# Altium footprint library LGA280C113P43X31_4900X3600X350.PcbLib: 1 footprints
Each footprint in its own frame and in the unit in brackets; x right, y up, seen from the top. Pads: shape width x height; smd on the part's side, far side on the other; paste and mask are expansions set on the pad; w line width, h text height; cw(c..) or ccw(c..) is an arc to the next point about the centre after c.
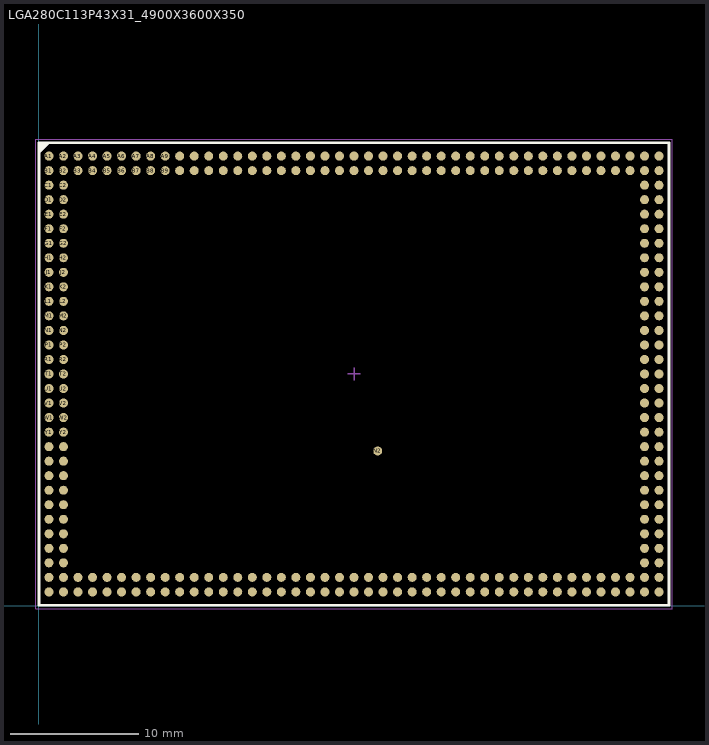
[diagram p0: the footprint, top view; thin cyan lines are the x and y axes]

## LGA280C113P43X31_4900X3600X350 [mm] "LGA, 280-Leads, Body 49.00x36.00mmx3.50mm, Pitch 1.13mm"
height 3.5
pads (281):
  round 0.7 smd: A1(0.781,34.984) A2(1.911,34.984) A3(3.041,34.984) A4(4.171,34.984) A5(5.301,34.984) A6(6.431,34.984) A7(7.561,34.984) A8(8.691,34.984) A9(9.821,34.984) A10(10.951,34.984) A11(12.081,34.984) A12(13.211,34.984) A13(14.341,34.984) A14(15.471,34.984) A15(16.601,34.984) A16(17.731,34.984) A17(18.861,34.984) A18(19.991,34.984) A19(21.121,34.984) A20(22.251,34.984) A21(23.381,34.984) A22(24.511,34.984) A23(25.641,34.984) A24(26.771,34.984) A25(27.901,34.984) A26(29.031,34.984) A27(30.161,34.984) A28(31.291,34.984) A29(32.421,34.984) A30(33.551,34.984) A31(34.681,34.984) A32(35.811,34.984) A33(36.941,34.984) A34(38.071,34.984) A35(39.201,34.984) A36(40.331,34.984) A37(41.461,34.984) A38(42.591,34.984) A39(43.721,34.984) A40(44.851,34.984) A41(45.981,34.984) A42(47.111,34.984) A43(48.241,34.984) AA1(0.781,12.384) AA2(1.911,12.384) AA42(47.111,12.384) AA43(48.241,12.384) AB1(0.781,11.254) AB2(1.911,11.254) AB42(47.111,11.254) AB43(48.241,11.254) AC1(0.781,10.124) AC2(1.911,10.124) AC42(47.111,10.124) AC43(48.241,10.124) AD1(0.781,8.994) AD2(1.911,8.994) AD42(47.111,8.994) AD43(48.241,8.994) AE1(0.781,7.864) AE2(1.911,7.864) AE42(47.111,7.864) AE43(48.241,7.864) AF1(0.781,6.734) AF2(1.911,6.734) AF42(47.111,6.734) AF43(48.241,6.734) AG1(0.781,5.604) AG2(1.911,5.604) AG42(47.111,5.604) AG43(48.241,5.604) AH1(0.781,4.474) AH2(1.911,4.474) AH42(47.111,4.474) AH43(48.241,4.474) AJ1(0.781,3.344) AJ2(1.911,3.344) AJ42(47.111,3.344) AJ43(48.241,3.344) AK1(0.781,2.214) AK2(1.911,2.214) AK3(3.041,2.214) AK4(4.171,2.214) AK5(5.301,2.214) AK6(6.431,2.214) AK7(7.561,2.214) AK8(8.691,2.214) AK9(9.821,2.214) AK10(10.951,2.214) AK11(12.081,2.214) AK12(13.211,2.214) AK13(14.341,2.214) AK14(15.471,2.214) AK15(16.601,2.214) AK16(17.731,2.214) AK17(18.861,2.214) AK18(19.991,2.214) AK19(21.121,2.214) AK20(22.251,2.214) AK21(23.381,2.214) AK22(24.511,2.214) AK23(25.641,2.214) AK24(26.771,2.214) AK25(27.901,2.214) AK26(29.031,2.214) AK27(30.161,2.214) AK28(31.291,2.214) AK29(32.421,2.214) AK30(33.551,2.214) AK31(34.681,2.214) AK32(35.811,2.214) AK33(36.941,2.214) AK34(38.071,2.214) AK35(39.201,2.214) AK36(40.331,2.214) AK37(41.461,2.214) AK38(42.591,2.214) AK39(43.721,2.214) AK40(44.851,2.214) AK41(45.981,2.214) AK42(47.111,2.214) AK43(48.241,2.214) AL1(0.781,1.084) AL2(1.911,1.084) AL3(3.041,1.084) AL4(4.171,1.084) AL5(5.301,1.084) AL6(6.431,1.084) AL7(7.561,1.084) AL8(8.691,1.084) AL9(9.821,1.084) AL10(10.951,1.084) AL11(12.081,1.084) AL12(13.211,1.084) AL13(14.341,1.084) AL14(15.471,1.084) AL15(16.601,1.084) AL16(17.731,1.084) AL17(18.861,1.084) AL18(19.991,1.084) AL19(21.121,1.084) AL20(22.251,1.084) AL21(23.381,1.084) AL22(24.511,1.084) AL23(25.641,1.084) AL24(26.771,1.084) AL25(27.901,1.084) AL26(29.031,1.084) AL27(30.161,1.084) AL28(31.291,1.084) AL29(32.421,1.084) AL30(33.551,1.084) AL31(34.681,1.084) AL32(35.811,1.084) AL33(36.941,1.084) AL34(38.071,1.084) AL35(39.201,1.084) AL36(40.331,1.084) AL37(41.461,1.084) AL38(42.591,1.084) AL39(43.721,1.084) AL40(44.851,1.084) AL41(45.981,1.084) AL42(47.111,1.084) AL43(48.241,1.084) B1(0.781,33.854) B2(1.911,33.854) B3(3.041,33.854) B4(4.171,33.854) B5(5.301,33.854) B6(6.431,33.854) B7(7.561,33.854) B8(8.691,33.854) B9(9.821,33.854) B10(10.951,33.854) B11(12.081,33.854) B12(13.211,33.854) B13(14.341,33.854) B14(15.471,33.854) B15(16.601,33.854) B16(17.731,33.854) B17(18.861,33.854) B18(19.991,33.854) B19(21.121,33.854) B20(22.251,33.854) B21(23.381,33.854) B22(24.511,33.854) B23(25.641,33.854) B24(26.771,33.854) B25(27.901,33.854) B26(29.031,33.854) B27(30.161,33.854) B28(31.291,33.854) B29(32.421,33.854) B30(33.551,33.854) B31(34.681,33.854) B32(35.811,33.854) B33(36.941,33.854) B34(38.071,33.854) B35(39.201,33.854) B36(40.331,33.854) B37(41.461,33.854) B38(42.591,33.854) B39(43.721,33.854) B40(44.851,33.854) B41(45.981,33.854) B42(47.111,33.854) B43(48.241,33.854) C1(0.781,32.724) C2(1.911,32.724) C42(47.111,32.724) C43(48.241,32.724) D1(0.781,31.594) D2(1.911,31.594) D42(47.111,31.594) D43(48.241,31.594) E1(0.781,30.464) E2(1.911,30.464) E42(47.111,30.464) E43(48.241,30.464) F1(0.781,29.334) F2(1.911,29.334) F42(47.111,29.334) F43(48.241,29.334) G1(0.781,28.204) G2(1.911,28.204) G42(47.111,28.204) G43(48.241,28.204) H1(0.781,27.074) H2(1.911,27.074) H42(47.111,27.074) H43(48.241,27.074) J1(0.781,25.944) J2(1.911,25.944) J42(47.111,25.944) J43(48.241,25.944) K1(0.781,24.814) K2(1.911,24.814) K42(47.111,24.814) K43(48.241,24.814) L1(0.781,23.684) L2(1.911,23.684) L42(47.111,23.684) L43(48.241,23.684) M1(0.781,22.554) M2(1.911,22.554) M42(47.111,22.554) M43(48.241,22.554) N1(0.781,21.424) N2(1.911,21.424) N2(26.35,12.05) N42(47.111,21.424) N43(48.241,21.424) P1(0.781,20.294) P2(1.911,20.294) P42(47.111,20.294) P43(48.241,20.294) R1(0.781,19.164) R2(1.911,19.164) R42(47.111,19.164) R43(48.241,19.164) T1(0.781,18.034) T2(1.911,18.034) T42(47.111,18.034) T43(48.241,18.034) U1(0.781,16.904) U2(1.911,16.904) U42(47.111,16.904) U43(48.241,16.904) V1(0.781,15.774) V2(1.911,15.774) V42(47.111,15.774) V43(48.241,15.774) W1(0.781,14.644) W2(1.911,14.644) W42(47.111,14.644) W43(48.241,14.644) Y1(0.781,13.514) Y2(1.911,13.514) Y42(47.111,13.514) Y43(48.241,13.514)
Top Overlay:
  region: 0.77,36.034 0.011,35.275 0.011,36.034
  lines w0.2: 0.011,35.275 0.77,36.034 ; 0.011,0.034 49.011,0.034 49.011,36.034 0.011,36.034 0.011,0.034
Mechanical 13:
  lines w0.1: 0.011,0.034 49.011,0.034 49.011,36.034 0.011,36.034 0.011,0.034
Mechanical 15:
  lines w0.05: -0.239,-0.216 49.261,-0.216 49.261,36.284 -0.239,36.284 -0.239,-0.216
  lines w0.1: 24.011,18.034 25.011,18.034 ; 24.511,17.534 24.511,18.534
3D body: height 3.5, standoff 0.1, extent 0.011,0.034 49.011,36.034